# EAGLE library part CSD18534Q5A (library watchplb)
60V N-Channel NexFET Power? MOSFET 8-VSON-FET -55 to 150
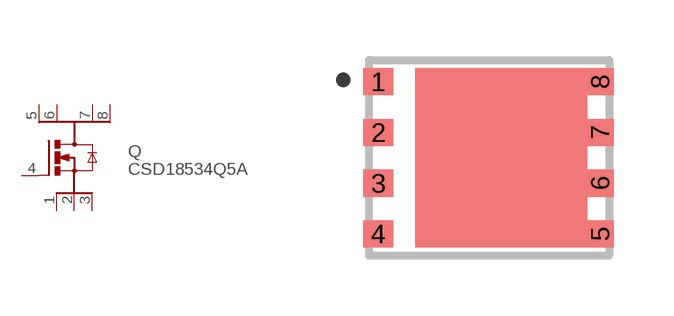
[diagram p1: symbol with the pads of TRANS_CSD18534Q5A; footprint TRANS_CSD18534Q5A]

Designator prefix Q

## CSD18534Q5A (AVAILABILITY: Good; DESCRIPTION: 60V N-Channel NexFET Power? MOSFET 8-VSON-FET -55 to 150; MF: Texas Instruments; MP: CSD18534Q5A; PACKAGE: VSON-8 Texas Instruments; PRICE: 0.61 USD)  [TRANS_CSD18534Q5A]
1  1  pas
2  2  pas
3  3  pas
4  4  pas
5  5  pas
6  6  pas
7  7  pas
8  8  pas

## Footprint TRANS_CSD18534Q5A (pad centres in mm)
smd 0.75 x 0.68: 1 -2.77,1.905; 2 -2.77,0.635; 3 -2.77,-0.635; 4 -2.77,-1.905
smd 0.66 x 0.68: 5 2.78,-1.905; 6 2.78,-0.635; 7 2.78,0.635; 8 2.78,1.905